# Altium footprint library SnapEDApcb.PcbLib: 4 footprints
Each footprint in its own frame and in the unit in brackets; x right, y up, seen from the top. Pads: shape width x height; smd on the part's side, far side on the other; paste and mask are expansions set on the pad; w line width, h text height; cw(c..) or ccw(c..) is an arc to the next point about the centre after c.
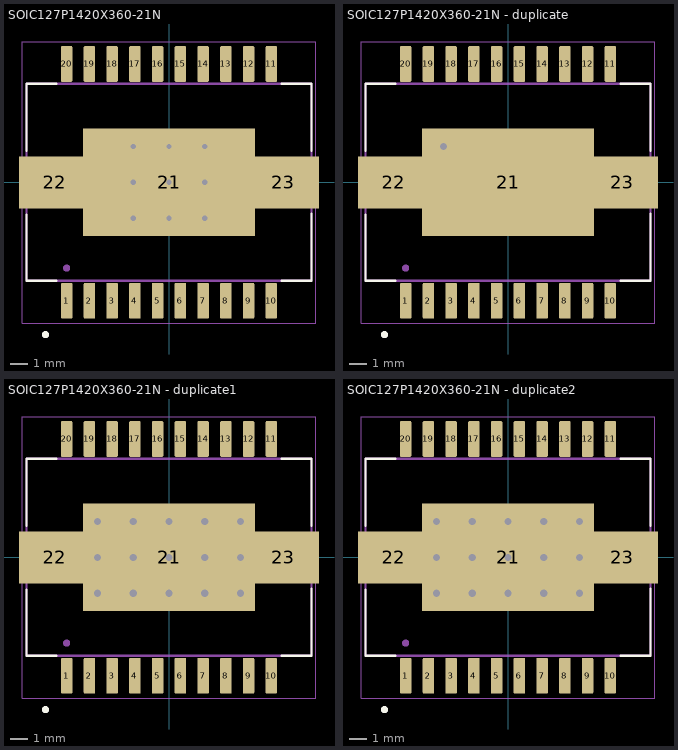
[diagram p0: the footprints below, top view; thin cyan lines are the x and y axes]

## SOIC127P1420X360-21N [mm]
pads (23):
  rrect16% 0.63x1.99 smd: 1(-5.715,-6.61) 2(-4.445,-6.61) 3(-3.175,-6.61) 4(-1.905,-6.61) 5(-0.635,-6.61) 6(0.635,-6.61) 7(1.905,-6.61) 8(3.175,-6.61) 9(4.445,-6.61) 10(5.715,-6.61) 11(5.715,6.61) 12(4.445,6.61) 13(3.175,6.61) 14(1.905,6.61) 15(0.635,6.61) 16(-0.635,6.61) 17(-1.905,6.61) 18(-3.175,6.61) 19(-4.445,6.61) 20(-5.715,6.61)
  rect 9.6x6 smd paste-6: 21(0,0)
  rect 4x2.9 smd paste-3: 22(-6.375,0) 23(6.375,0)
via 2,-2 diameter 0.5 hole 0.3
via 2,0 diameter 0.5 hole 0.3
via 2,2 diameter 0.5 hole 0.3
via 0,2 diameter 0.5 hole 0.3
via 0,0 diameter 0.5 hole 0.3
via 0,-2 diameter 0.5 hole 0.3
via -2,-2 diameter 0.5 hole 0.3
via -2,0 diameter 0.5 hole 0.3
via -2,2 diameter 0.5 hole 0.3
Top Overlay:
  circle w0.2: c-6.9,-8.5 r0.1
  lines w0.127: -7.95,-1.8 -7.95,-5.5 -6.3,-5.5 ; -7.95,1.75 -7.95,5.5 -6.3,5.5 ; 6.3,-5.5 7.95,-5.5 7.95,-1.75 ; 6.3,5.5 7.95,5.5 7.95,1.75
Mechanical 13:
  circle w0.2: c-5.715,-4.79 r0.1
  lines w0.127: -7.95,-5.5 -7.95,5.5 7.95,5.5 7.95,-5.5 -7.95,-5.5
Mechanical 15:
  lines w0.05: -8.2,-7.86 -8.2,7.86 8.2,7.86 8.2,-7.86 -8.2,-7.86
3D body "L6234PD.STEP": height 3.5, standoff -0.15, extent -8.26,-7.25 7.74,7.25
3D body "L6234PD.STEP": height 3.3, standoff -0.35, extent -7.25,-7.73 7.25,8.27
3D body "L6234PD.STEP": height 3.3, standoff -0.35, extent -8.2,-7.3 7.8,7.2

## SOIC127P1420X360-21N - duplicate [mm]
pads (23):
  rrect16% 0.63x1.99 smd: 1(-5.715,-6.61) 2(-4.445,-6.61) 3(-3.175,-6.61) 4(-1.905,-6.61) 5(-0.635,-6.61) 6(0.635,-6.61) 7(1.905,-6.61) 8(3.175,-6.61) 9(4.445,-6.61) 10(5.715,-6.61) 11(5.715,6.61) 12(4.445,6.61) 13(3.175,6.61) 14(1.905,6.61) 15(0.635,6.61) 16(-0.635,6.61) 17(-1.905,6.61) 18(-3.175,6.61) 19(-4.445,6.61) 20(-5.715,6.61)
  rect 9.6x6 smd paste-6: 21(0,0)
  rect 4x2.9 smd paste-3: 22(-6.375,0) 23(6.375,0)
via -3.6,2 diameter 0.6 hole 0.4
Top Overlay:
  circle w0.2: c-6.9,-8.5 r0.1
  lines w0.127: -7.95,-1.8 -7.95,-5.5 -6.3,-5.5 ; -7.95,1.75 -7.95,5.5 -6.3,5.5 ; 6.3,-5.5 7.95,-5.5 7.95,-1.75 ; 6.3,5.5 7.95,5.5 7.95,1.75
Top Paste:
  region: 3.045,1.9 3.045,-1.903 -3.04,-1.903 -3.04,1.9
Mechanical 13:
  circle w0.2: c-5.715,-4.79 r0.1
  lines w0.127: -7.95,-5.5 -7.95,5.5 7.95,5.5 7.95,-5.5 -7.95,-5.5
Mechanical 15:
  lines w0.05: -8.2,-7.86 -8.2,7.86 8.2,7.86 8.2,-7.86 -8.2,-7.86
3D body "L6234PD.STEP": height 3.5, standoff -0.15, extent -8.26,-7.25 7.74,7.25
3D body "L6234PD.STEP": height 3.3, standoff -0.35, extent -7.25,-7.73 7.25,8.27

## SOIC127P1420X360-21N - duplicate1 [mm]
pads (23):
  rrect16% 0.63x1.99 smd: 1(-5.715,-6.61) 2(-4.445,-6.61) 3(-3.175,-6.61) 4(-1.905,-6.61) 5(-0.635,-6.61) 6(0.635,-6.61) 7(1.905,-6.61) 8(3.175,-6.61) 9(4.445,-6.61) 10(5.715,-6.61) 11(5.715,6.61) 12(4.445,6.61) 13(3.175,6.61) 14(1.905,6.61) 15(0.635,6.61) 16(-0.635,6.61) 17(-1.905,6.61) 18(-3.175,6.61) 19(-4.445,6.61) 20(-5.715,6.61)
  rect 9.6x6 smd paste-6: 21(0,0)
  rect 4x2.9 smd paste-3: 22(-6.375,0) 23(6.375,0)
via -4,2 diameter 0.6 hole 0.4
via -2,2 diameter 0.6 hole 0.4
via 0,2 diameter 0.6 hole 0.4
via 4,2 diameter 0.6 hole 0.4
via 2,-2 diameter 0.6 hole 0.4
via 2,0 diameter 0.6 hole 0.4
via 2,2 diameter 0.6 hole 0.4
via 4,0 diameter 0.6 hole 0.4
via 4,-2 diameter 0.6 hole 0.4
via 0,-2 diameter 0.6 hole 0.4
via -2,-2 diameter 0.6 hole 0.4
via -4,-2 diameter 0.6 hole 0.4
via -4,0 diameter 0.6 hole 0.4
via -2,0 diameter 0.6 hole 0.4
via 0,0 diameter 0.6 hole 0.4
Top Overlay:
  circle w0.2: c-6.9,-8.5 r0.1
  lines w0.127: -7.95,-1.8 -7.95,-5.5 -6.3,-5.5 ; -7.95,1.75 -7.95,5.5 -6.3,5.5 ; 6.3,-5.5 7.95,-5.5 7.95,-1.75 ; 6.3,5.5 7.95,5.5 7.95,1.75
Mechanical 13:
  circle w0.2: c-5.715,-4.79 r0.1
  lines w0.127: -7.95,-5.5 7.95,-5.5 7.95,5.5 -7.95,5.5 -7.95,-5.5
Mechanical 15:
  lines w0.05: -8.2,-7.86 8.2,-7.86 8.2,7.86 -8.2,7.86 -8.2,-7.86
3D body "L6234PD.STEP": height 3.3, standoff -0.35, extent -7.25,-7.73 7.25,8.27
3D body "L6234PD.STEP": height 3.5, standoff -0.15, extent -8.26,-7.25 7.74,7.25

## SOIC127P1420X360-21N - duplicate2 [mm]
pads (23):
  rrect16% 0.63x1.99 smd: 1(-5.715,-6.61) 2(-4.445,-6.61) 3(-3.175,-6.61) 4(-1.905,-6.61) 5(-0.635,-6.61) 6(0.635,-6.61) 7(1.905,-6.61) 8(3.175,-6.61) 9(4.445,-6.61) 10(5.715,-6.61) 11(5.715,6.61) 12(4.445,6.61) 13(3.175,6.61) 14(1.905,6.61) 15(0.635,6.61) 16(-0.635,6.61) 17(-1.905,6.61) 18(-3.175,6.61) 19(-4.445,6.61) 20(-5.715,6.61)
  rect 9.6x6 smd paste-6: 21(0,0)
  rect 4x2.9 smd paste-3: 22(-6.375,0) 23(6.375,0)
via -2,2 diameter 0.6 hole 0.4
via 0,2 diameter 0.6 hole 0.4
via 4,2 diameter 0.6 hole 0.4
via 2,-2 diameter 0.6 hole 0.4
via 2,0 diameter 0.6 hole 0.4
via 2,2 diameter 0.6 hole 0.4
via 4,0 diameter 0.6 hole 0.4
via 4,-2 diameter 0.6 hole 0.4
via 0,-2 diameter 0.6 hole 0.4
via -2,-2 diameter 0.6 hole 0.4
via -4,-2 diameter 0.6 hole 0.4
via -4,0 diameter 0.6 hole 0.4
via -2,0 diameter 0.6 hole 0.4
via 0,0 diameter 0.6 hole 0.4
via -4,2 diameter 0.6 hole 0.4
Top Overlay:
  circle w0.2: c-6.9,-8.5 r0.1
  lines w0.127: -7.95,-1.8 -7.95,-5.5 -6.3,-5.5 ; -7.95,1.75 -7.95,5.5 -6.3,5.5 ; 6.3,-5.5 7.95,-5.5 7.95,-1.75 ; 6.3,5.5 7.95,5.5 7.95,1.75
Mechanical 13:
  circle w0.2: c-5.715,-4.79 r0.1
  lines w0.127: -7.95,-5.5 7.95,-5.5 7.95,5.5 -7.95,5.5 -7.95,-5.5
Mechanical 15:
  lines w0.05: -8.2,-7.86 8.2,-7.86 8.2,7.86 -8.2,7.86 -8.2,-7.86
3D body "L6234PD.STEP": height 3.3, standoff -0.35, extent -7.25,-7.73 7.25,8.27
3D body "L6234PD.STEP": height 3.5, standoff -0.15, extent -8.26,-7.25 7.74,7.25